# Altium footprint library CAP_EEE2AA220P.PcbLib: 1 footprints
Each footprint in its own frame and in the unit in brackets; x right, y up, seen from the top. Pads: shape width x height; smd on the part's side, far side on the other; paste and mask are expansions set on the pad; w line width, h text height; cw(c..) or ccw(c..) is an arc to the next point about the centre after c.
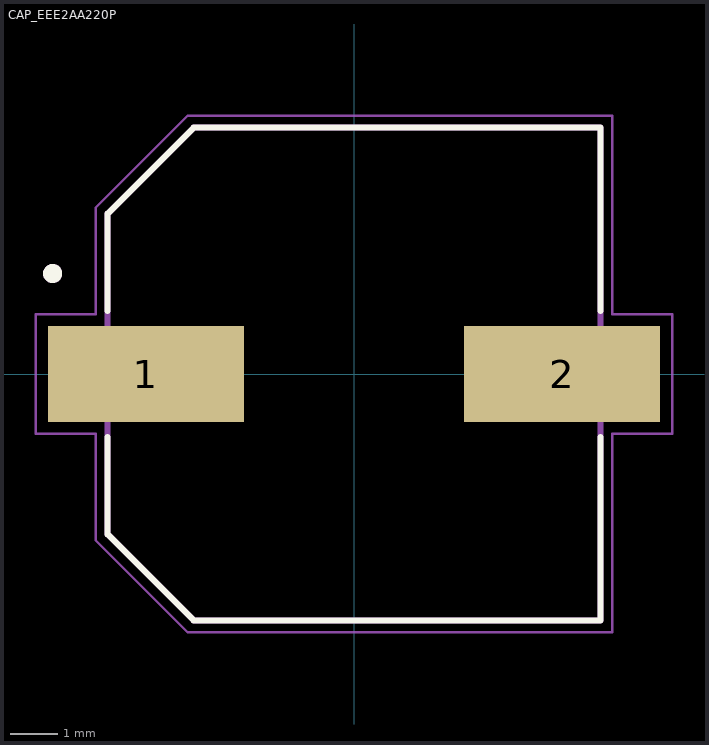
[diagram p0: the footprint, top view; thin cyan lines are the x and y axes]

## CAP_EEE2AA220P [mm]
pads (2):
  rect 4.1x2 smd: 1(-4.35,0) 2(4.35,0)
Top Overlay:
  circle w0.2: c-6.3,2.1 r0.1
  lines w0.127: -5.15,-1.32 -5.15,-3.35 -3.35,-5.15 5.15,-5.15 5.15,-1.32 ; -5.15,1.32 -5.15,3.35 -3.35,5.15 5.15,5.15 5.15,1.32
Mechanical 13:
  circle w0.2: c-6.3,2.1 r0.1
  lines w0.127: -5.15,-3.35 -3.35,-5.15 5.15,-5.15 5.15,5.15 -3.35,5.15 -5.15,3.35 -5.15,-3.35
Mechanical 15:
  lines w0.05: -6.65,-1.25 -6.65,1.25 -5.4,1.25 -5.4,3.475 -3.475,5.4 5.4,5.4 5.4,1.25 6.65,1.25 6.65,-1.25 5.4,-1.25 5.4,-5.4 -3.475,-5.4 -5.4,-3.475 -5.4,-1.25 -6.65,-1.25
3D body "step_temp.STEP": height 10.19, standoff -0.01, extent -5.85,-5.15 5.85,5.15